# EAGLE library part 1X09 (library lowfieldmri)
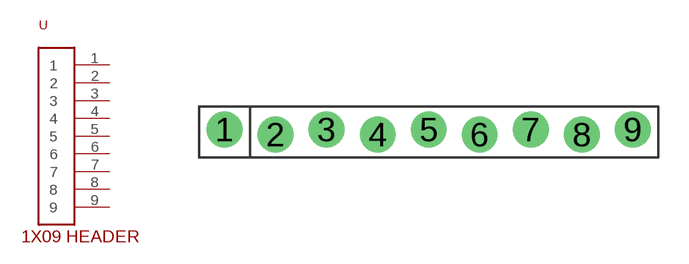
[diagram p2: symbol with the pads of 1X09; footprint 1X09]

Designator prefix -

## 1X09  [1X09]
1  1
2  2
3  3
4  4
5  5
6  6
7  7
8  8
9  9

## Footprint 1X09 (pad centres in mm)
drill 1.016 pad 1.778: 1 -10.16,0.127; 2 -7.62,-0.127; 3 -5.08,0.127; 4 -2.54,-0.127; 5 0,0.127; 6 2.54,-0.127; 7 5.08,0.127; 8 7.62,-0.127; 9 10.16,0.127